# EAGLE library part STC3100 (library EEG)
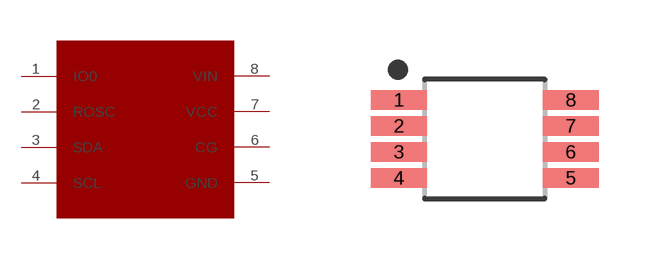
[diagram p0: symbol with the pads of STC3100; footprint STC3100]

Designator prefix -

## STC3100  [STC3100]
1  IO0
2  ROSC
3  SDA
4  SCL
5  GND
6  CG
7  VCC
8  VIN

## Footprint STC3100 (pad centres in mm)
8-SOP, 0.65 mm pitch, 4.90 mm span, 3.00 X 3.00 X 1.10 mm body 8-pin SOP package with 0.65 mm pitch, 4.90 mm span with body size 3.00 X 3.00 X 1.10 mm
smd 1.412 x 0.492: 1 -2.15,0.975; 2 -2.15,0.325; 3 -2.15,-0.325; 4 -2.15,-0.975; 5 2.15,-0.975; 6 2.15,-0.325; 7 2.15,0.325; 8 2.15,0.975